# Altium integrated library IS126.IntLib: 1 symbol
Pins are listed as number, name and electrical type; pins without a type are passive.

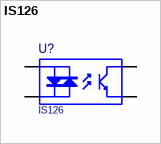
[diagram p0: symbol IS126]

## IS126
designator U?
PDF: http://www.tme.eu/pl/Document/8d29b84f636037c982379910f92a7c10/IS126.pdf; ID: IS126; PRICE: 0,9332 z³; BUY_LINK: http://www.tme.eu/pl/details/is126/transoptory-wyjscie-tranzystorowe-smd/isocom/#teab3905fad10263fbfdf2aa7b491aa60
footprint SOP4
footprint SOP4
pins: 1, 2, 3, 4